# Altium footprint library Footprints.PcbLib: 2 footprints
Each footprint in its own frame and in the unit in brackets; x right, y up, seen from the top. Pads: shape width x height; smd on the part's side, far side on the other; paste and mask are expansions set on the pad; w line width, h text height; cw(c..) or ccw(c..) is an arc to the next point about the centre after c.
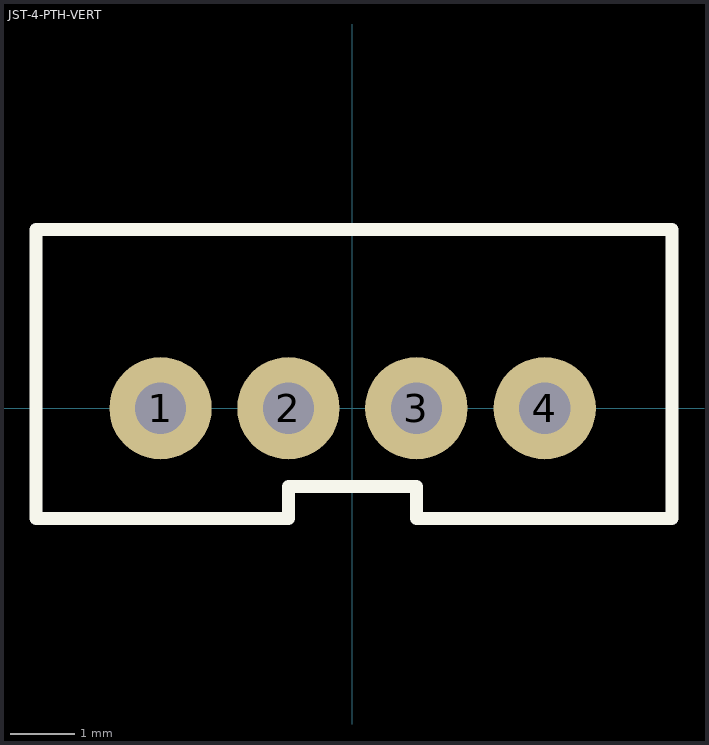
[diagram p0: the footprints below, top view; thin cyan lines are the x and y axes]

## JST-4-PTH-VERT [mil]
pads (4):
  round 63 hole 31.5: 1(-118.11,0) 2(-39.37,0) 3(39.37,0) 4(118.37,0)
Top Overlay:
  lines w8: -194.88,-67.84 -194.88,110 196.85,110 196.85,-67.84 39.37,-67.84 39.37,-48.16 -39.37,-48.16 -39.37,-67.84 -194.88,-67.84
3D body: height 236.22, standoff -133.86, extent -194.88,-66.93 194.88,110.24

## PCBComponent_1 [mil]